# Altium footprint library ESP32 USBC V1 1.PcbLib: 15 footprints
Each footprint in its own frame and in the unit in brackets; x right, y up, seen from the top. Pads: shape width x height; smd on the part's side, far side on the other; paste and mask are expansions set on the pad; w line width, h text height; cw(c..) or ccw(c..) is an arc to the next point about the centre after c.
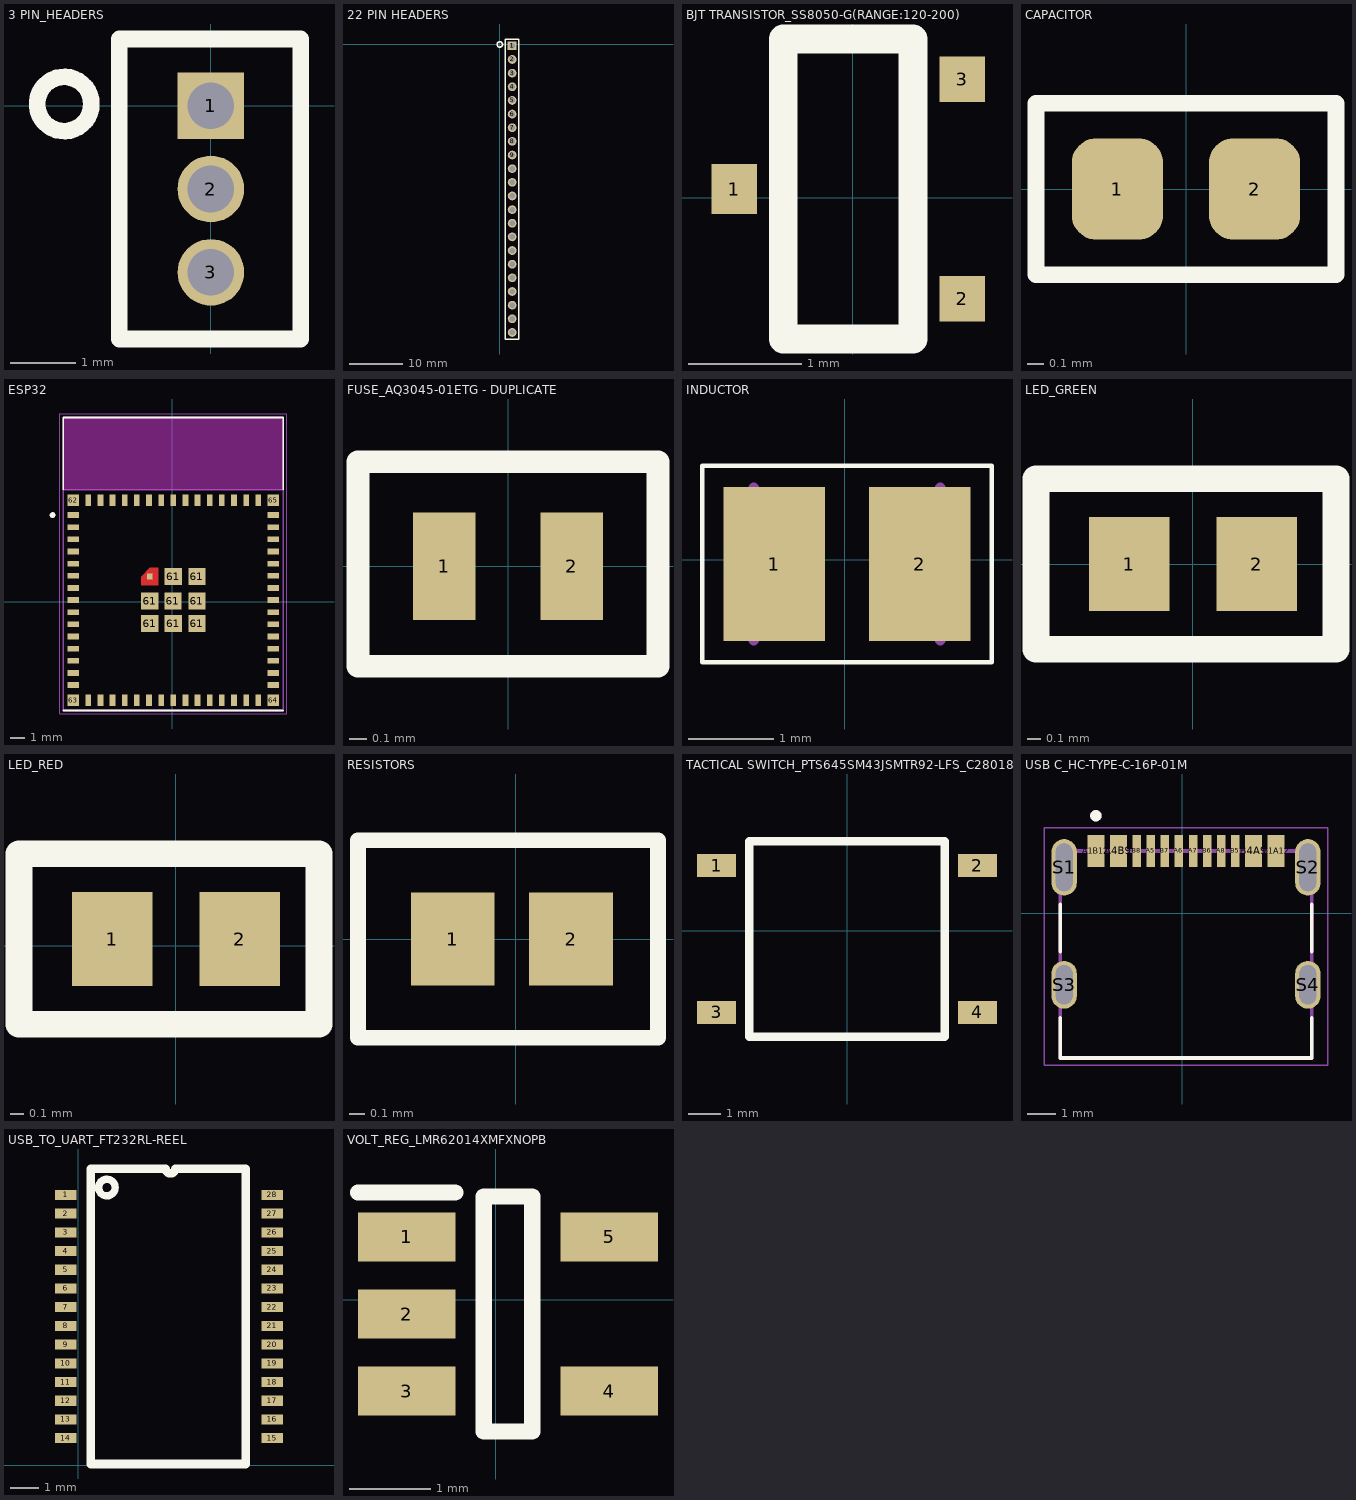
[diagram p0: the footprints below, top view; thin cyan lines are the x and y axes]

## 2PIN_HEADERS [mm]

## 3 PIN_HEADERS [mil]
pads (3):
  rect 40x40 hole 28: 1(0,0)
  round 40 hole 28: 2(0,-50) 3(0,-100)
Top Overlay:
  circle w10: c-88,1 r16.28
  lines w10: -55,-140 54,-140 54,40 -55,40 -55,-140
3D body "FTS-103-01-F-S.stp": height 154, standoff -90, extent -42,-124 43,26

## 22 PIN HEADERS [mil]
pads (22):
  rect 64x64 hole 40: 1(90,-11)
  round 64 hole 40: 2(90,-111) 3(90,-211) 4(90,-311) 5(90,-411) 6(90,-511) 7(90,-611) 8(90,-711) 9(90,-811) 10(90,-911) 11(90,-1011) 12(90,-1111) 13(90,-1211) 14(90,-1311) 15(90,-1411) 16(90,-1511) 17(90,-1611) 18(90,-1711) 19(90,-1811) 20(90,-1911) 21(90,-2011) 22(90,-2111)
Top Overlay:
  circle w10: c0,-1 r20
  lines w10: 40,-2159 140,-2159 140,39 40,39 40,-2159
3D body "TSW-101-24-T-S.stp": height 365, standoff -115, extent 41,-2160 141,-2060
3D body "TSW-101-24-T-S.stp": height 365, standoff -115, extent 41,-2060 141,-1960
3D body "TSW-101-24-T-S.stp": height 365, standoff -115, extent 41,-1960 141,-1860
3D body "TSW-101-24-T-S.stp": height 365, standoff -115, extent 41,-1860 141,-1760
3D body "TSW-101-24-T-S.stp": height 365, standoff -115, extent 41,-1760 141,-1660
3D body "TSW-101-24-T-S.stp": height 365, standoff -115, extent 41,-1660 141,-1560
3D body "TSW-101-24-T-S.stp": height 365, standoff -115, extent 41,-1560 141,-1460
3D body "TSW-101-24-T-S.stp": height 365, standoff -115, extent 41,-1460 141,-1360
3D body "TSW-101-24-T-S.stp": height 365, standoff -115, extent 41,-1360 141,-1260
3D body "TSW-101-24-T-S.stp": height 365, standoff -115, extent 41,-1260 141,-1160
3D body "TSW-101-24-T-S.stp": height 365, standoff -115, extent 41,-1160 141,-1060
3D body "TSW-101-24-T-S.stp": height 365, standoff -115, extent 41,-1060 141,-960
3D body "TSW-101-24-T-S.stp": height 365, standoff -115, extent 41,-960 141,-860
3D body "TSW-101-24-T-S.stp": height 365, standoff -115, extent 41,-860 141,-760
3D body "TSW-101-24-T-S.stp": height 365, standoff -115, extent 41,-760 141,-660
3D body "TSW-101-24-T-S.stp": height 365, standoff -115, extent 41,-660 141,-560
3D body "TSW-101-24-T-S.stp": height 365, standoff -115, extent 41,-560 141,-460
3D body "TSW-101-24-T-S.stp": height 365, standoff -115, extent 41,-460 141,-360
3D body "TSW-101-24-T-S.stp": height 365, standoff -115, extent 41,-360 141,-260
3D body "TSW-101-24-T-S.stp": height 365, standoff -115, extent 41,-260 141,-160
3D body "TSW-101-24-T-S.stp": height 365, standoff -115, extent 41,-60 141,40
3D body "TSW-101-24-T-S.stp": height 365, standoff -115, extent 41,-160 141,-60

## BJT TRANSISTOR_SS8050-G(RANGE:120-200) [mil]
pads (3):
  rect 15.75x17.41 smd: 1(-41,3)
  rect 15.75x15.75 smd: 2(38,-35) 3(38,41)
Top Overlay:
  lines w10: -24,-49 -24,55 21,55 21,24.75 21,-20.75 21,-49 -24,-49
3D body "SS8050-G.step": height 45, standoff 0, extent -48.25,-54 46.25,60

## CAPACITOR [mm]
pads (2):
  rrect53% 0.54x0.6 smd: 1(-0.406,0) 2(0.406,0)
Top Overlay:
  lines w0.1: -0.889,-0.508 0.889,-0.508 0.889,0.508 -0.889,0.508 -0.889,-0.508
3D body "CL05A105KL5NRNC.step": height 0.55, standoff 0, extent -0.5,-0.254 0.5,0.246

## ESP32 [mm]
pads (73):
  rect 0.8x0.4 smd: 1(-6.924,6.052) 2(-6.924,5.202) 3(-6.924,4.352) 4(-6.924,3.502) 5(-6.924,2.652) 6(-6.924,1.802) 7(-6.924,0.952) 8(-6.924,0.102) 9(-6.924,-0.748) 10(-6.924,-1.598) 11(-6.924,-2.448) 12(-6.924,-3.298) 13(-6.924,-4.148) 14(-6.924,-4.998) 15(-6.924,-5.848) 31(7.076,-5.848) 32(7.076,-4.998) 33(7.076,-4.148) 34(7.076,-3.298) 35(7.076,-2.448) 36(7.076,-1.598) 37(7.076,-0.748) 38(7.076,0.102) 39(7.076,0.952) 40(7.076,1.802) 41(7.076,2.652) 42(7.076,3.502) 43(7.076,4.352) 44(7.076,5.202) 45(7.076,6.052)
  rect 0.4x0.8 smd: 16(-5.874,-6.898) 17(-5.024,-6.898) 18(-4.174,-6.898) 19(-3.324,-6.898) 20(-2.474,-6.898) 21(-1.624,-6.898) 22(-0.774,-6.898) 23(0.076,-6.898) 24(0.926,-6.898) 25(1.776,-6.898) 26(2.626,-6.898) 27(3.476,-6.898) 28(4.326,-6.898) 29(5.176,-6.898) 30(6.026,-6.898) 46(6.026,7.102) 47(5.176,7.102) 48(4.326,7.102) 49(3.476,7.102) 50(2.626,7.102) 51(1.776,7.102) 52(0.926,7.102) 53(0.076,7.102) 54(-0.774,7.102) 55(-1.624,7.102) 56(-2.474,7.102) 57(-3.324,7.102) 58(-4.174,7.102) 59(-5.024,7.102) 60(-5.874,7.102)
  rect 1.2x1.2 smd: 61(-1.575,0.025) 61(-1.574,-1.548) 61(0.051,0.025) 61(0.076,-1.548) 61(0.076,1.752) 61(1.726,-1.548) 61(1.726,1.752) 61(1.727,0.025)
  rect 0.4x0.4 smd paste-1 mask+0: 61(-1.574,1.752)
  rect 0.8x0.8 smd: 62(-6.924,7.102) 63(-6.924,-6.898) 64(7.076,-6.898) 65(7.076,7.102)
Top Layer:
  region: -0.974,1.152 -2.174,1.152 -2.174,1.752 -1.574,2.352 -0.974,2.352
Top Overlay:
  circle w0.2: c-8.374,6.052 r0.1
  lines w0.127: -7.624,-7.623 7.776,-7.623 ; -7.624,7.827 -7.624,12.877 7.776,12.877 7.776,7.827
Top Paste:
  region: -0.974,1.152 -2.174,1.152 -2.174,1.752 -1.574,2.352 -0.974,2.352
Top Solder:
  region: -0.874,1.052 -2.274,1.052 -2.274,1.802 -1.624,2.452 -0.874,2.452
Keep-Out Layer:
  region: 7.776,7.827 -7.624,7.827 -7.624,12.877 7.776,12.877
  region: 7.776,7.827 -7.624,7.827 -7.624,12.877 7.776,12.877
Mechanical 13:
  circle w0.2: c-8.374,6.052 r0.1
  lines w0.127: -7.624,7.827 -7.624,-7.623 7.776,-7.623 7.776,7.827 ; -7.624,7.827 -7.624,12.877 7.776,12.877 7.776,7.827 ; -7.624,7.827 7.776,7.827
Mechanical 15:
  lines w0.05: -7.874,-7.873 -7.874,13.127 8.026,13.127 8.026,-7.873 -7.874,-7.873
3D body "step_temp.STEP": height 2.55, standoff 0, extent -7.624,-7.623 7.776,12.877

## FUSE_AQ3045-01ETG - DUPLICATE [mm]
pads (2):
  rect 0.35x0.6 smd: 1(-0.356,0) 2(0.356,0)
Top Overlay:
  lines w0.127: -0.838,-0.559 0.838,-0.559 0.838,0.584 -0.838,0.584 -0.838,-0.559
3D body "AQ3045-01ETG.stp": height 0.42, standoff -0.01, extent -0.535,-0.34 0.535,0.335

## INDUCTOR [mm]
pads (2):
  rect 1.2x1.82 smd: 1(-0.835,-0.051) 2(0.885,-0.051)
Top Overlay:
  lines w0.05: -1.683,-1.209 -1.683,1.107 1.733,1.107 1.733,-1.209 -1.683,-1.209
Mechanical 13:
  lines w0.127: -1.075,-0.951 -1.075,0.849 ; 1.125,-0.951 1.125,0.849
3D body "DFE201612E-R24M=P2.STEP": height 1.2, standoff 0, extent -1,-0.851 1,0.749

## LED_GREEN [mm]
pads (2):
  rect 0.6x0.7 smd: 1(-0.475,0) 2(0.475,0)
Top Overlay:
  lines w0.2: -1.168,-0.635 1.067,-0.635 1.067,0.635 -1.168,0.635 -1.168,-0.635
3D body "User Library-LED_1006_G.STEP": height 0.2, standoff 0, extent -0.5,-0.3 0.5,0.3

## LED_RED [mm]
pads (2):
  rect 0.6x0.7 smd: 1(-0.475,0.051) 2(0.475,0.051)
Top Overlay:
  lines w0.2: -1.168,-0.584 -1.168,0.686 1.067,0.686 1.067,-0.584 -1.168,-0.584
3D body "User Library-LED_1006_R.STEP": height 0.2, standoff 0, extent -0.525,-0.249 0.475,0.351

## RESISTORS [mm]
pads (2):
  rect 0.54x0.6 smd: 1(-0.406,0) 2(0.356,0)
Top Overlay:
  lines w0.1: -1.016,-0.635 0.914,-0.635 0.914,0.635 -1.016,0.635 -1.016,-0.635
3D body "RES_AC0402FR_YAG.step": height 0.38, standoff 0, extent -0.572,-0.279 0.47,0.279

## TACTICAL SWITCH_PTS645SM43JSMTR92-LFS_C2801847 [mm]
pads (4):
  rect 1.2x0.7 smd: 1(-4,2) 2(4,2) 3(-4,-2.5) 4(4,-2.5)
Top Overlay:
  lines w0.254: -3,-3.25 3,-3.25 3,2.75 -3,2.75 -3,-3.25
Bottom Solder:
  text "Designator" at -1.746,0.012 h1.52
3D body "User Library-PTS645SL43SMTR92-LFS.STEP": height 4.3, standoff 0, extent -4.5,-3.25 4.5,2.75

## USB C_HC-TYPE-C-16P-01M [mm]
pads (16):
  rect 0.6x1.14 smd mask+0.05: A1B12(-3.073,2.218) A4B9(-2.273,2.218) B1A12(3.327,2.218) B4A9(2.527,2.218)
  rect 0.3x1.14 smd mask+0.05: A5(-1.123,2.218) A6(-0.123,2.218) A7(0.377,2.218) A8(1.377,2.218) B5(1.877,2.218) B6(0.877,2.218) B7(-0.623,2.218) B8(-1.623,2.218)
  oval 0.9x2 hole 0.6 slot 1.7 at 90 deg: S1(-4.198,1.638) S2(4.452,1.638)
  oval 0.9x1.7 hole 0.6 slot 1.4 at 90 deg: S3(-4.198,-2.532) S4(4.452,-2.532)
Top Overlay:
  circle w0.2: c-3.073,3.468 r0.1
  lines w0.127: -4.343,-3.702 -4.343,-5.132 4.597,-5.132 4.597,-3.702 ; -4.343,-1.362 -4.343,0.318 ; 4.597,-1.362 4.597,0.318
Bottom Solder:
  text "Designator" at -3.496,-0.988 h1.52
Mechanical 13:
  circle w0.2: c-3.073,3.468 r0.1
  lines w0.127: -4.343,-5.132 -4.343,2.218 4.597,2.218 4.597,-5.132 -4.343,-5.132
Mechanical 15:
  lines w0.05: -4.898,-5.382 5.152,-5.382 5.152,3.038 -4.898,3.038 -4.898,-5.382
3D body "step_temp.STEP": height 3.31, standoff -0.99, extent -4.318,-5.064 4.622,2.841

## USB_TO_UART_FT232RL-REEL [mm]
pads (28):
  rect 0.75x0.35 smd: 1(-0.432,9.398) 2(-0.432,8.748) 3(-0.432,8.098) 4(-0.432,7.448) 5(-0.432,6.798) 6(-0.432,6.148) 7(-0.432,5.498) 8(-0.432,4.848) 9(-0.432,4.198) 10(-0.432,3.548) 11(-0.432,2.898) 12(-0.432,2.248) 13(-0.432,1.598) 14(-0.432,0.948) 15(6.728,0.948) 16(6.728,1.598) 17(6.728,2.248) 18(6.728,2.898) 19(6.728,3.548) 20(6.728,4.198) 21(6.728,4.848) 22(6.728,5.498) 23(6.728,6.148) 24(6.728,6.798) 25(6.728,7.448) 26(6.728,8.098) 27(6.728,8.748) 28(6.728,9.398)
Top Overlay:
  circle w0.254: c0.991,9.652 r0.287
  lines w0.3: 0.432,10.251 0.432,0.051 5.817,0.051 5.817,10.225 ; 0.432,10.307 3.036,10.307 ccw(c3.199,10.307) 3.361,10.307 5.817,10.307
3D body "IC28_SSOP-28_FTD.step": height 2.01, standoff 0, extent -0.8,-0.089 7.1,10.401

## VOLT_REG_LMR62014XMFXNOPB [mm]
pads (5):
  rect 1.2x0.6 smd: 1(-1.098,0.772) 2(-1.098,-0.178) 3(-1.098,-1.128) 4(1.402,-1.128) 5(1.402,0.772)
Top Overlay:
  lines w0.2: -1.698,1.322 -0.498,1.322 ; -0.148,-1.628 -0.148,1.272 0.452,1.272 0.452,-1.628 -0.148,-1.628
3D body "LMR62014XMFX_NOPB.STEP": height 1.45, standoff 0, extent -1.121,-1.575 1.679,1.325